# EAGLE library part UC3842-5 (library linear)
PWM sterownik zasilacza impulsowego
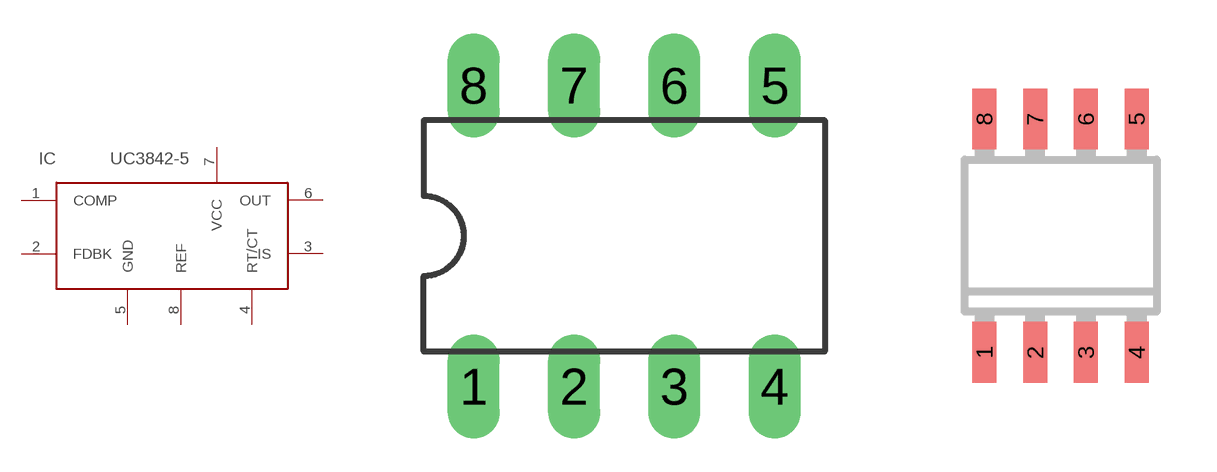
[diagram p257: symbol with the pads of DIL08; footprints DIL08, SO08]

Designator prefix IC

## UC3842-5  [DIL08]
1  COMP  in
2  FDBK  in
3  IS  out
4  RT/CT  out
5  GND  pwr
6  OUT  out
7  VCC  pwr
8  REF  out

## UC3842-5"  [SO08]
Pads as for DIL08

## Footprint DIL08 (pad centres in mm)
Dual In Line Package
drill 0.813 long: 1 -3.81,-3.81; 2 -1.27,-3.81; 3 1.27,-3.81; 4 3.81,-3.81; 5 3.81,3.81; 6 1.27,3.81; 7 -1.27,3.81; 8 -3.81,3.81

## Footprint SO08 (pad centres in mm)
Small Outline Package 8 NS Package M08A
smd 0.6 x 1.524: 1 -1.905,-2.935; 2 -0.635,-2.935; 3 0.635,-2.935; 4 1.905,-2.935; 5 1.905,2.9; 6 0.635,2.9; 7 -0.635,2.9; 8 -1.905,2.9